# Altium schematic symbol library MF_LEDs.SCHLIB: 8 symbols
Pins are listed as number, name and electrical type; pins without a type are passive.

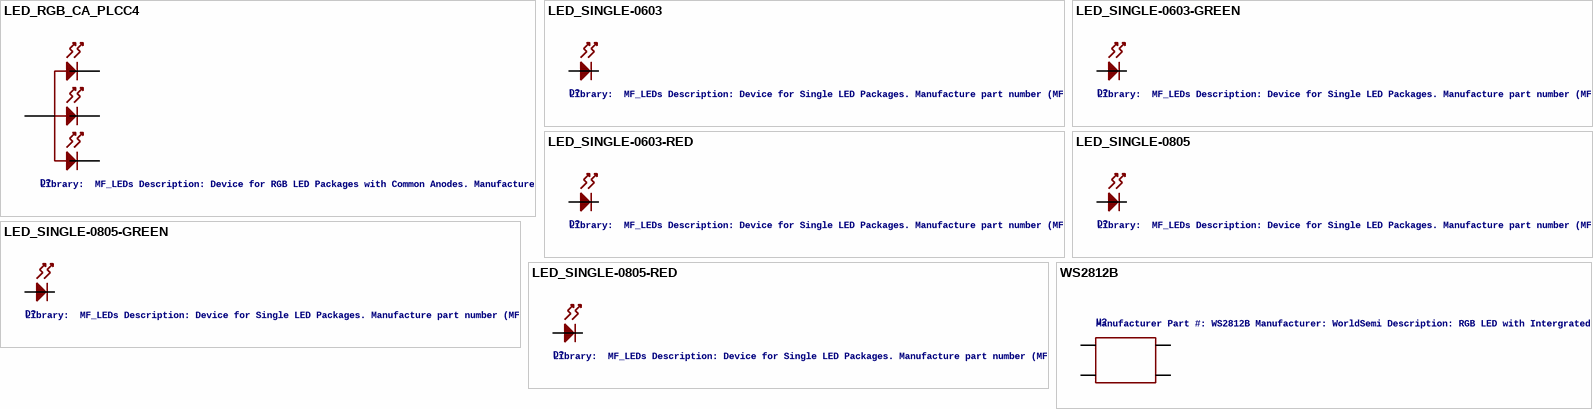
[diagram p0: symbols LED_RGB_CA_PLCC4 to WS2812B]

## LED_RGB_CA_PLCC4
designator D?, comment Library:  MF_LEDs Description: Device for RGB LED Packages with Common Anodes. Manufacture part number (MFG#) can be added via Attributes.
HOUSEPART: YES; MPN: MF-LED-3228-RGB; GateName_1: G$1; SymbolName_1: LED_RGB_CA; DeviceName: _PLCC4; POPULATE: 1; LibraryName: MF_LEDs; DeviceSetName: LED_RGB_CA; URL: https://factory.macrofab.com/part/MF-LED-3228-RGB
footprint PLCC4
pins: P$1 ANODE (power), P$2 CATHODE_RED (power), P$3 CATHODE_GREEN (power), P$4 CATHODE_BLUE (power)

## LED_SINGLE-0603
designator D?, comment Library:  MF_LEDs Description: Device for Single LED Packages. Manufacture part number (MFG#) can be added via Attributes.
HOUSEPART: NO; GateName_1: G$1; DeviceName: -0603; DeviceSetName: LED_SINGLE; POPULATE: 1; SymbolName_1: LED; LibraryName: MF_LEDs
footprint LED0603
pins: ANODE (power), CATHODE (power)

## LED_SINGLE-0603-GREEN
designator D?, comment Library:  MF_LEDs Description: Device for Single LED Packages. Manufacture part number (MFG#) can be added via Attributes.
HOUSEPART: YES; MPN: MF-LED-0603-GREEN; GateName_1: G$1; DeviceName: -0603-GREEN; DeviceSetName: LED_SINGLE; POPULATE: 1; SymbolName_1: LED; LibraryName: MF_LEDs; URL: https://factory.macrofab.com/part/MF-LED-0603-GREEN
footprint LED0603
pins: ANODE (power), CATHODE (power)

## LED_SINGLE-0603-RED
designator D?, comment Library:  MF_LEDs Description: Device for Single LED Packages. Manufacture part number (MFG#) can be added via Attributes.
HOUSEPART: YES; MPN: MF-LED-0603-RED; GateName_1: G$1; DeviceName: -0603-RED; DeviceSetName: LED_SINGLE; POPULATE: 1; SymbolName_1: LED; LibraryName: MF_LEDs; URL: https://factory.macrofab.com/part/MF-LED-0603-RED
footprint LED0603
pins: ANODE (power), CATHODE (power)

## LED_SINGLE-0805
designator D?, comment Library:  MF_LEDs Description: Device for Single LED Packages. Manufacture part number (MFG#) can be added via Attributes.
HOUSEPART: NO; GateName_1: G$1; DeviceName: -0805; DeviceSetName: LED_SINGLE; POPULATE: 1; SymbolName_1: LED; LibraryName: MF_LEDs
footprint LED0805
pins: ANODE (power), CATHODE (power)

## LED_SINGLE-0805-GREEN
designator D?, comment Library:  MF_LEDs Description: Device for Single LED Packages. Manufacture part number (MFG#) can be added via Attributes.
HOUSEPART: YES; MPN: MF-LED-0805-GREEN; GateName_1: G$1; DeviceName: -0805-GREEN; DeviceSetName: LED_SINGLE; POPULATE: 1; SymbolName_1: LED; LibraryName: MF_LEDs; URL: https://factory.macrofab.com/part/MF-LED-0805-GREEN
footprint LED0805
pins: ANODE (power), CATHODE (power)

## LED_SINGLE-0805-RED
designator D?, comment Library:  MF_LEDs Description: Device for Single LED Packages. Manufacture part number (MFG#) can be added via Attributes.
HOUSEPART: YES; MPN: MF-LED-0805-RED; GateName_1: G$1; DeviceName: -0805-RED; DeviceSetName: LED_SINGLE; POPULATE: 1; SymbolName_1: LED; LibraryName: MF_LEDs; URL: https://factory.macrofab.com/part/MF-LED-0805-RED
footprint LED0805
pins: ANODE (power), CATHODE (power)

## WS2812B
designator U?, comment Manufacturer Part #: WS2812B Manufacturer: WorldSemi Description: RGB LED with Intergrated Control Driver RGB
HOUSEPART: NO; GateName_1: G$1; POPULATE: 1; SymbolName_1: WS2812B; LibraryName: MF_LEDs; DeviceSetName: WS2812B; MPN: WS2812B; URL: https://cdn-shop.adafruit.com/datasheets/WS2812B.pdf
footprint WS2812B
pins: P$1 VDD (power), P$2 DOUT, P$3 VSS (power), P$4 DIN